# Altium footprint library iip.PcbLib: 25 footprints (part 2 of 2)
Each footprint in its own frame and in the unit in brackets; x right, y up, seen from the top. Pads: shape width x height; smd on the part's side, far side on the other; paste and mask are expansions set on the pad; w line width, h text height; cw(c..) or ccw(c..) is an arc to the next point about the centre after c.
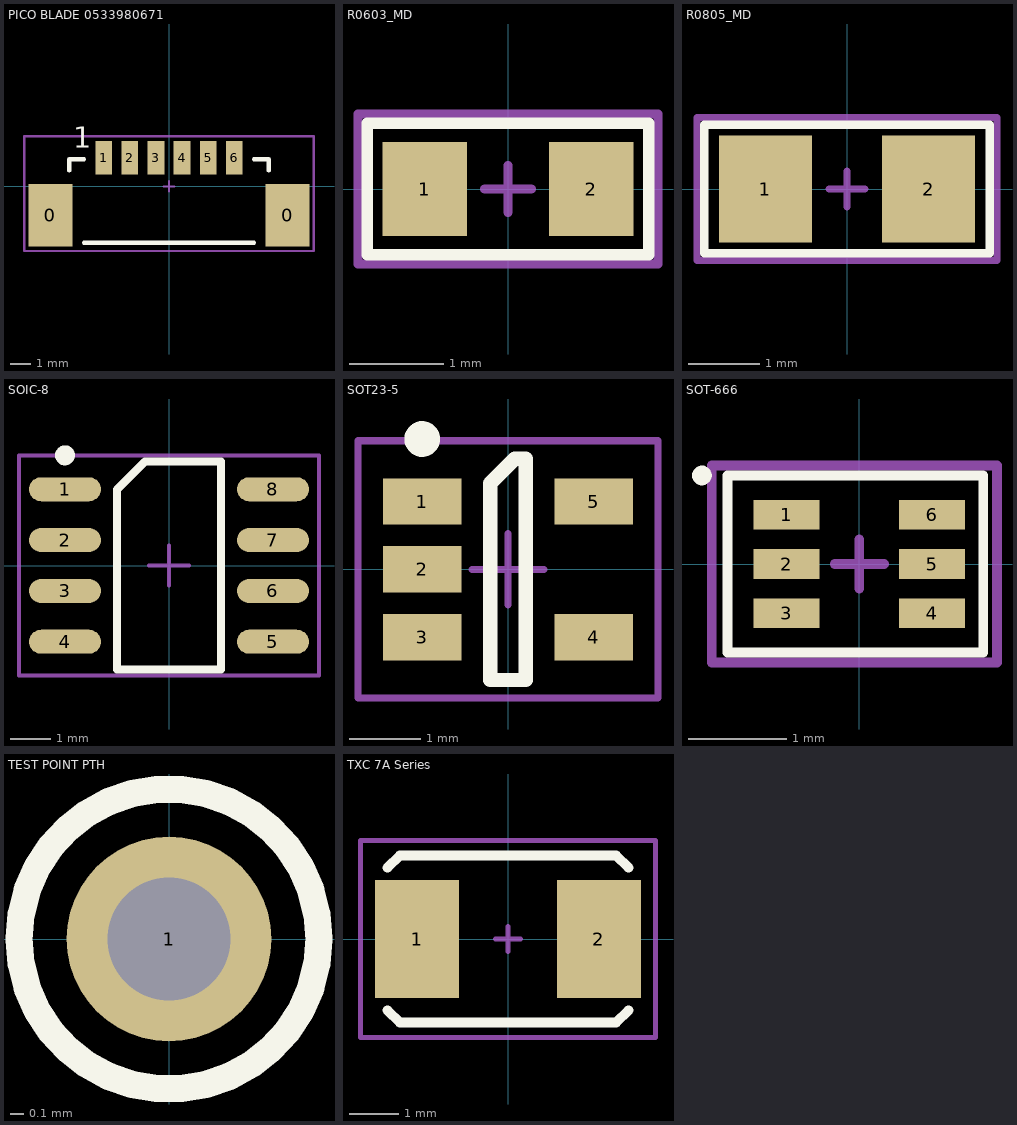
[diagram p1: the footprints below, top view; thin cyan lines are the x and y axes]

## PICO BLADE 0533980671 [mm] "CONN HEADER SMD 6POS 1.25MM"
height 4.7
pads (8):
  rect 2.1x3 smd: 0(-5.675,-1.375) 0(5.675,-1.375)
  rect 0.8x1.6 smd: 1(-3.125,1.375) 2(-1.875,1.375) 3(-0.625,1.375) 4(0.625,1.375) 5(1.875,1.375) 6(3.125,1.375)
Top Overlay:
  lines w0.2: -4.775,0.762 -4.775,1.3 -4.064,1.3 ; -4.064,-2.7 4.064,-2.7 ; 4.064,1.3 4.775,1.3 4.775,0.762
  text "1" at -4.575,1.85 h1
Mechanical 15:
  lines w0.1: -0.25,0 0.25,0 ; 0,-0.25 0,0.25 ; -6.925,-3.1 -6.925,2.4 6.925,2.4 6.925,-3.1 -6.925,-3.1
  text "'.Designator'" at -3.5,0.75 h1.2
3D body "User Library-molex 53398 white (4).step": height 4.7, standoff 0, extent -6.325,-2.5 6.325,1.7
3D body "510210600_6posHousingPicoblade.stp": height 5.87, standoff 1.92, extent -4.625,-2.35 4.625,0.85

## R0603_MD [mm] "Chip Resistor, Body 1.6x0.8mm, IPC Medium Density"
height 0.85
pads (2):
  rect 0.9x1 smd: 1(-0.889,0) 2(0.889,0)
Top Overlay:
  lines w0.12: -1.5,-0.7 1.5,-0.7 1.5,0.7 -1.5,0.7 -1.5,-0.7
Mechanical 15:
  lines w0.1: -0.25,0 0.25,0 ; 0,-0.25 0,0.25 ; -1.6,-0.8 1.6,-0.8 1.6,0.8 -1.6,0.8 -1.6,-0.8
3D body "Flat Chip Resistor 0603(1608M).step": height 0.37, standoff 0, extent -0.8,-0.4 0.8,0.402

## R0805_MD [mm] "Chip Resistor, Body 2.0x1.3mm, IPC Medium Density"
height 1.1
pads (2):
  rect 1.3x1.5 smd: 1(-1.143,0) 2(1.143,0)
Top Overlay:
  lines w0.12: -2,-0.9 -2,0.9 2,0.9 2,-0.9 -2,-0.9
Mechanical 15:
  lines w0.1: -0.25,0 0.25,0 ; 0,-0.25 0,0.25 ; -2.1,-1 2.1,-1 2.1,1 -2.1,1 -2.1,-1
  text "'.Designator'" at -1.75,-0.75 h0.8
3D body "Flat Chip Resistor 0805(2012M).step": height 0.47, standoff 0, extent -1,-0.625 1,0.627

## SOIC-8 [mm] "SOIC, 8 Pin, Pitch 1,27mm"
height 2.59
pads (8):
  oval 1.8x0.6 smd: 1(-2.6,1.905) 2(-2.6,0.635) 3(-2.6,-0.635) 4(-2.6,-1.905) 5(2.6,-1.905) 6(2.6,-0.635) 7(2.6,0.635) 8(2.6,1.905)
Top Overlay:
  circle w0.25: c-2.6,2.755 r0.125
  lines w0.2: -1.3,-2.6 -1.3,1.9 -0.6,2.6 1.3,2.6 1.3,-2.6 -1.3,-2.6
Mechanical 15:
  lines w0.1: -0.5,0 0.5,0 ; 0,-0.5 0,0.5 ; -3.75,-2.75 3.75,-2.75 3.75,2.75 -3.75,2.75 -3.75,-2.75
  text "'.Designator'" at -3,1.25 h0.8
3D body "MIC2026-1BM - SOIC-8.stp": height 1.7, standoff 0, extent -3,-2.45 3,2.45

## SOT23-5 [mm]
height 1.45
pads (5):
  rect 1.1x0.65 smd: 1(-1.2,0.95) 2(-1.2,0) 3(-1.2,-0.95) 4(1.2,-0.95) 5(1.2,0.95)
Top Overlay:
  circle w0.25: c-1.2,1.825 r0.125
  lines w0.2: -0.25,-1.55 -0.25,1.206 0.094,1.55 0.25,1.55 0.25,-1.55 -0.25,-1.55
Mechanical 15:
  lines w0.1: -0.5,0 0.5,0 ; 0,-0.5 0,0.5 ; -2.1,-1.8 2.1,-1.8 2.1,1.8 -2.1,1.8 -2.1,-1.8
  text "'.Designator'" at -1.75,0.75 h0.8
3D body "SOT23-5.STEP": height 1.3, standoff 0, extent -1.5,-1.5 1.5,1.5

## SOT-666 [mm]
pads (6):
  rect 0.67x0.3 smd: 1(-0.74,0.5) 2(-0.74,0) 3(-0.74,-0.5) 4(0.74,-0.5) 5(0.74,0) 6(0.74,0.5)
Top Overlay:
  circle w0.1: c-1.6,0.9 r0.05
  lines w0.1: -0.125,0.9 1.26,0.9 1.26,-0.9 -1.34,-0.9 -1.34,0.9 0.125,0.9
Mechanical 15:
  lines w0.1: -0.25,0 0.25,0 ; 0,-0.25 0,0.25 ; -1.5,-1 1.4,-1 1.4,1 -1.5,1 -1.5,-1
  text "'.Designator'" at -0.6,0.4 h0.2
3D body "User Library-SOT50P160X60-6.step": height 0.6, standoff 0, extent -0.8,-0.795 0.8,0.795

## TEST POINT PTH [mm]
pads (1):
  round 1.5 hole 0.9: 1(0,0)
Top Overlay:
  circle w0.2: c0,0 r1.1

## TXC 7A Series [mm]
height 0.9
pads (2):
  rect 1.7x2.4 smd: 1(-1.85,0) 2(1.85,0)
Top Overlay:
  lines w0.2: -2.45,-1.45 -2.2,-1.7 2.2,-1.7 2.45,-1.45 ; -2.45,1.45 -2.2,1.7 2.2,1.7 2.45,1.45
Mechanical 15:
  lines w0.1: -0.25,0 0.25,0 ; 0,-0.25 0,0.25 ; -3,-2 3,-2 3,2 -3,2 -3,-2
  text "'.Designator'" at -2.5,0.75 h0.8
3D body "User Library-445-CRYTAL-SMD.STEP": height 1.35, standoff 0, extent -2.5,-1.6 2.5,1.6

## USB_conn [mm]
3D body "c-1734753-1-a-3d.stp": height 0, standoff -11.3, extent -3.85,-1.95 3.85,2.14